# Altium schematic symbol library P6KE6.8A.SchLib: 1 symbol
Pins are listed as number, name and electrical type; pins without a type are passive.

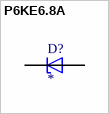
[diagram p0: symbol P6KE6.8A]

## P6KE6.8A
designator D?
10.5V Clamp 58.1A Ipp Tvs Diode Through Hole DO-204AC (DO-15); MF: Littelfuse Inc.; MP: P6KE6.8A; SnapEDA_Link: https://www.snapeda.com/parts/P6KE6.8A/Littelfuse/view-part/?ref=snap; Package: DO-15 Littelfuse Inc.; Value: *; Check_prices: https://www.snapeda.com/parts/P6KE6.8A/Littelfuse/view-part/?ref=eda
footprint DIOAD1300W80L670D310
pins: A, C